# Altium footprint library PHOENIX_1792863.PcbLib: 1 footprints
Each footprint in its own frame and in the unit in brackets; x right, y up, seen from the top. Pads: shape width x height; smd on the part's side, far side on the other; paste and mask are expansions set on the pad; w line width, h text height; cw(c..) or ccw(c..) is an arc to the next point about the centre after c.
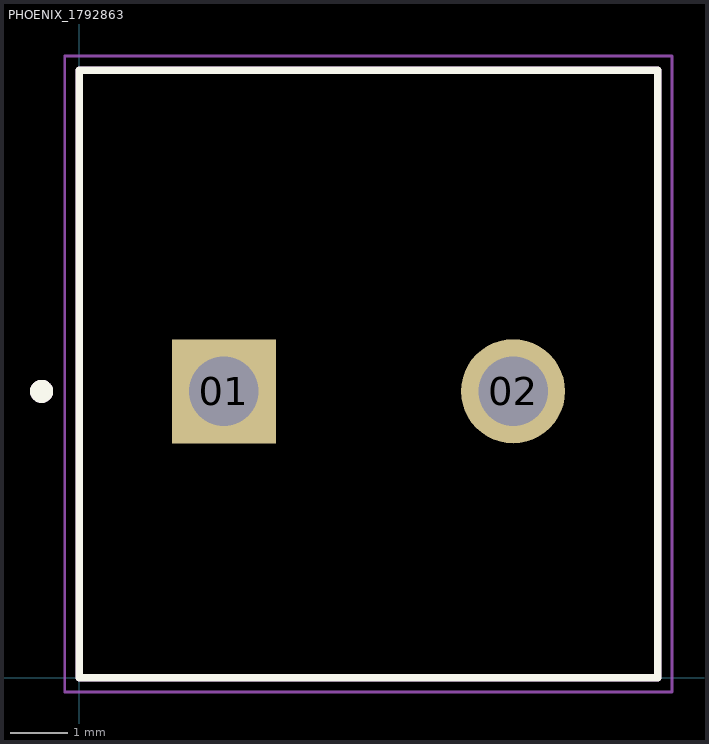
[diagram p0: the footprint, top view; thin cyan lines are the x and y axes]

## PHOENIX_1792863 [mm]
pads (2):
  rect 1.8x1.8 / inner round 1.8 / far side rect 1.8x1.8 hole 1.2: 01(2.5,4.95)
  round 1.8 hole 1.2: 02(7.5,4.95)
Top Overlay:
  circle w0.2: c-0.65,4.95 r0.1
  lines w0.127: 0,0 0,10.5 10,10.5 10,0 0,0
Mechanical 13:
  circle w0.2: c-0.65,4.95 r0.1
  lines w0.127: 0,0 0,10.5 10,10.5 10,0 0,0
Mechanical 15:
  lines w0.05: -0.25,-0.25 -0.25,10.75 10.25,10.75 10.25,-0.25 -0.25,-0.25